# Altium footprint library CONN_PWR.PcbLib: 30 footprints (part 1 of 2)
Each footprint in its own frame and in the unit in brackets; x right, y up, seen from the top. Pads: shape width x height; smd on the part's side, far side on the other; paste and mask are expansions set on the pad; w line width, h text height; cw(c..) or ccw(c..) is an arc to the next point about the centre after c.
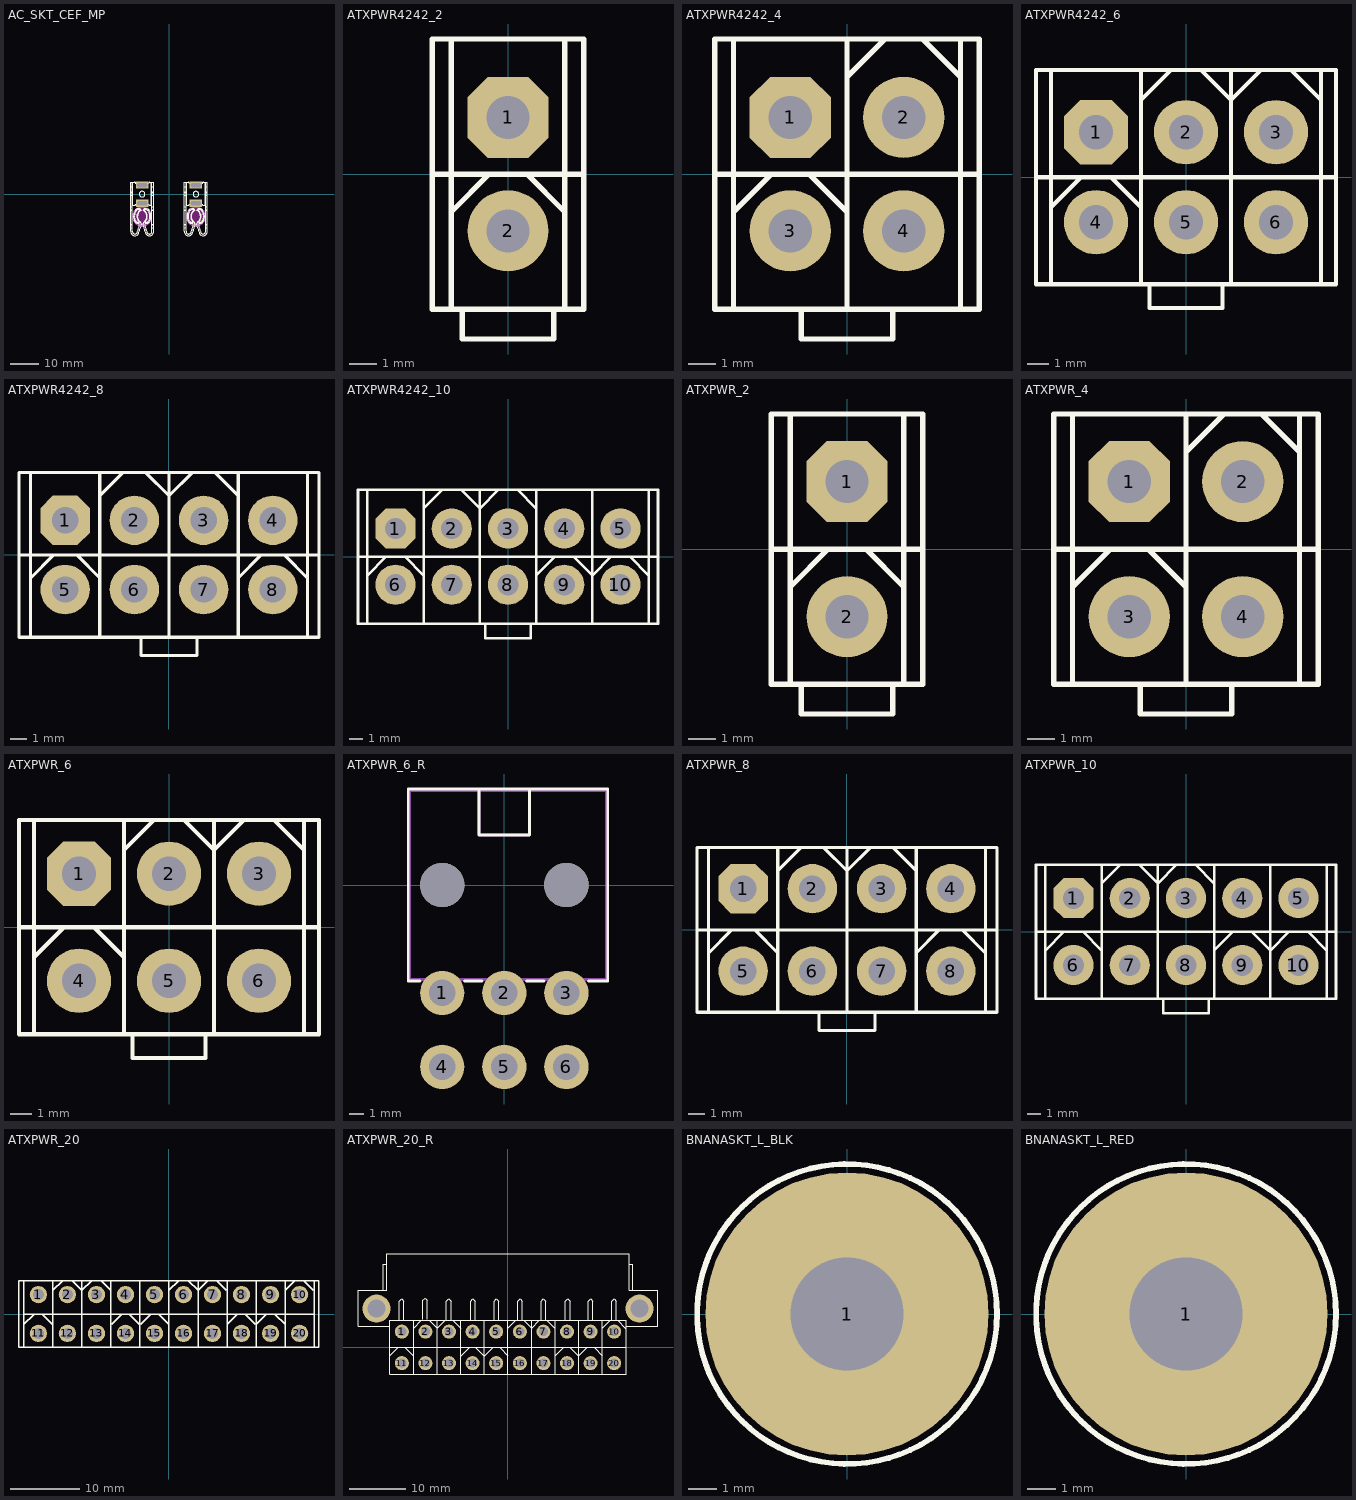
[diagram p0: the footprints below, top view; thin cyan lines are the x and y axes]

## AC_SKT_CEF_MP [mm] "AC power Brass socket METAL PART of Type C, E, F"
height 23.5
pads (4):
  rect 4.5x2.5 hole 1.5 slot 3.5 at 0 deg: A1(-9.5,-3.2) A2(-9.5,3.2) B1(9.5,-3.2) B2(9.5,3.2)
Top Overlay:
  drawing of 494 lines, arcs and shapes, not listed
Keep-Out Layer:
  board cut-out: -12.9,-7.895 -12.88,-8.235 -12.83,-8.595 -12.74,-8.915 -12.6,-9.285 -12.41,-9.645 -12.21,-9.945 -11.99,-10.205 -11.8,-10.385 -11.58,-10.585 -11.33,-10.755 -11.07,-10.915 -10.74,-11.065 -10.38,-11.185 -10.02,-11.255 -9.7,-11.295 -9.29,-11.295 -8.9,-11.255 -8.6,-11.175 -8.23,-11.045 -7.9,-10.915 -7.61,-10.725 -7.29,-10.495 -7.02,-10.235 -6.75,-9.925 -6.53,-9.585 -6.35,-9.205 -6.22,-8.835 -6.16,-8.535 -6.11,-8.225 -6.1,-7.895 -6.1,-7.575 -6.16,-7.205 -6.28,-6.775 -6.41,-6.455 -6.54,-6.215 -6.68,-5.985 -6.82,-5.795 -7.07,-5.505 -7.36,-5.255 -7.74,-4.975 -8.15,-4.775 -8.304,-4.715 -10.72,-4.715 -11.09,-4.875 -11.39,-5.055 -11.71,-5.305 -11.95,-5.525 -12.19,-5.805 -12.39,-6.105 -12.53,-6.335 -12.67,-6.665 -12.79,-7.015 -12.85,-7.325 -12.9,-7.635
  board cut-out: 6.1,-7.895 6.12,-8.235 6.17,-8.595 6.26,-8.915 6.4,-9.285 6.59,-9.645 6.79,-9.945 7.01,-10.205 7.2,-10.385 7.42,-10.585 7.67,-10.755 7.93,-10.915 8.26,-11.065 8.62,-11.185 8.98,-11.255 9.3,-11.295 9.71,-11.295 10.1,-11.255 10.4,-11.175 10.77,-11.045 11.1,-10.915 11.39,-10.725 11.71,-10.495 11.98,-10.235 12.25,-9.925 12.47,-9.585 12.65,-9.205 12.78,-8.835 12.84,-8.535 12.89,-8.225 12.9,-7.895 12.9,-7.575 12.84,-7.205 12.72,-6.775 12.59,-6.455 12.46,-6.215 12.32,-5.985 12.18,-5.795 11.93,-5.505 11.64,-5.255 11.26,-4.975 10.85,-4.775 10.696,-4.715 8.28,-4.715 7.91,-4.875 7.61,-5.055 7.29,-5.305 7.05,-5.525 6.81,-5.805 6.61,-6.105 6.47,-6.335 6.33,-6.665 6.21,-7.015 6.15,-7.325 6.1,-7.635
Mechanical 1:
  lines w0.2: -10.663,-4.68 ccw(c-9.5,-7.875) -8.337,-4.68 -10.663,-4.68 ; 8.337,-4.68 ccw(c9.5,-7.875) 10.663,-4.68 8.337,-4.68
3D body "75.stp": height 7.32, standoff -4.5, extent 5.45,-14.681 13.55,4.215
3D body "75.stp": height 7.32, standoff -4.5, extent -13.55,-14.681 -5.45,4.215

## ATXPWR4242_2 [mm] "Connector; ATX Power; pitch: 4.2mm-Row4.2mm"
pads (2):
  oct 3x3 hole 1.6: 1(0,2.1)
  round 3 hole 1.6: 2(0,-2.1)
Top Overlay:
  lines w0.2: -2.8,0 2.8,0 ; -2.1,-5 -2.1,5 ; -2.1,-1.4 -0.7,0 ; -1.7,-5 -1.7,-6.1 1.7,-6.1 1.7,-5 ; 0.7,0 2.1,-1.4 ; 2.1,-5 2.1,5 ; -2.8,-5 -2.8,5 2.8,5 2.8,-5 -2.8,-5
3D body "0039281023.stp": height 12.8, standoff -3.5, extent -3.1,-6 3.1,5

## ATXPWR4242_4 [mm] "Connector; ATX Power; pitch: 4.2mm-Row4.2mm"
pads (4):
  oct 3x3 hole 1.6: 1(-2.1,2.1)
  round 3 hole 1.6: 2(2.1,2.1) 3(-2.1,-2.1) 4(2.1,-2.1)
Top Overlay:
  lines w0.2: -4.9,0 4.9,0 ; -4.2,-5 -4.2,5 ; -4.2,-1.4 -2.8,0 ; -1.7,-5 -1.7,-6.1 1.7,-6.1 1.7,-5 ; -1.4,0 0,-1.4 ; 0,-5 0,5 ; 0,3.6 1.4,5 ; 2.8,5 4.2,3.6 ; 4.2,-5 4.2,5 ; -4.9,-5 4.9,-5 4.9,5 -4.9,5 -4.9,-5
3D body "c-4-1775099-0-e-3d.stp": height 13, standoff -3, extent -5.097,-6.1 4.75,4.8

## ATXPWR4242_6 [mm] "Connector; ATX Power; pitch: 4.2mm-Row4.2mm"
pads (6):
  oct 3x3 hole 1.6: 1(-4.2,2.1)
  round 3 hole 1.6: 2(0,2.1) 3(4.2,2.1) 4(-4.2,-2.1) 5(0,-2.1) 6(4.2,-2.1)
Top Overlay:
  lines w0.2: -7,0 7,0 ; -6.3,-5 -6.3,5 ; -6.3,-1.4 -4.9,0 ; -3.5,0 -2.1,-1.4 ; -2.1,-5 -2.1,5 ; -2.1,3.6 -0.7,5 ; -1.7,-5 -1.7,-6.1 1.7,-6.1 1.7,-5 ; 0.7,5 2.1,3.6 3.5,5 ; 2.1,-5 2.1,5 ; 4.9,5 6.3,3.6 ; 6.3,-5 6.3,5 ; -7,-5 7,-5 7,5 -7,5 -7,-5
3D body "4-1775099-1.stp": height 13, standoff -3, extent -6.85,-6.1 6.85,4.8

## ATXPWR4242_8 [mm] "Connector; ATX Power; pitch: 4.2mm-Row4.2mm"
pads (8):
  oct 3x3 hole 1.6: 1(-6.3,2.1)
  round 3 hole 1.6: 2(-2.1,2.1) 3(2.1,2.1) 4(6.3,2.1) 5(-6.3,-2.1) 6(-2.1,-2.1) 7(2.1,-2.1) 8(6.3,-2.1)
Top Overlay:
  lines w0.2: -9.1,0 9.1,0 ; -8.4,-5 -8.4,5 ; -8.4,-1.4 -7,0 ; -5.6,0 -4.2,-1.4 ; -4.2,-5 -4.2,5 ; -4.2,3.6 -2.8,5 ; -1.7,-5 -1.7,-6.1 1.7,-6.1 1.7,-5 ; -1.4,5 0,3.6 1.4,5 ; 0,-5 0,5 ; 2.8,5 4.2,3.6 ; 4.2,-5 4.2,5 ; 4.2,-1.4 5.6,0 ; 7,0 8.4,-1.4 ; 8.4,-5 8.4,5 ; -9.1,-5 -9.1,5 9.1,5 9.1,-5 -9.1,-5
3D body "c-4-1775099-2-e-3d.stp": height 13, standoff -3, extent -9.297,-6.1 8.95,4.8

## ATXPWR4242_10 [mm] "Connector; ATX Power; pitch: 4.2mm-Row4.2mm"
pads (10):
  oct 3x3 hole 1.6: 1(-8.4,2.1)
  round 3 hole 1.6: 2(-4.2,2.1) 3(0,2.1) 4(4.2,2.1) 5(8.4,2.1) 6(-8.4,-2.1) 7(-4.2,-2.1) 8(0,-2.1) 9(4.2,-2.1) 10(8.4,-2.1)
Top Overlay:
  lines w0.2: -11.2,0 11.2,0 ; -10.5,-5 -10.5,5 ; -10.5,-1.4 -9.1,0 ; -7.7,0 -6.3,-1.4 ; -6.3,-5 -6.3,5 ; -6.3,3.6 -4.9,5 ; -3.5,5 -2.1,3.6 -0.7,5 ; -2.1,-5 -2.1,5 ; -1.7,-5 -1.7,-6.1 1.7,-6.1 1.7,-5 ; 0.7,5 2.1,3.6 ; 2.1,-5 2.1,5 ; 2.1,-1.4 3.5,0 ; 4.9,0 6.3,-1.4 7.7,0 ; 6.3,-5 6.3,5 ; 9.1,0 10.5,-1.4 ; 10.5,-5 10.5,5 ; -11.2,-5 11.2,-5 11.2,5 -11.2,5 -11.2,-5
3D body "4-1775099-3.stp": height 13, standoff -3, extent -11.047,-6.095 11.053,4.805

## ATXPWR_2 [mm] "Connector; ATX Power; 2 Position, Molex 39281023"
pads (2):
  oct 3x3 hole 1.6: 1(0,2.5)
  round 3 hole 1.6: 2(0,-2.5)
Top Overlay:
  lines w0.2: -2.8,0 2.8,0 ; -2.1,-5 -2.1,5 ; -2.1,-1.4 -0.7,0 ; -1.7,-5 -1.7,-6.1 1.7,-6.1 1.7,-5 ; 0.7,0 2.1,-1.4 ; 2.1,-5 2.1,5 ; -2.8,-5 2.8,-5 2.8,5 -2.8,5 -2.8,-5
3D body "0039281023.stp": height 12.8, standoff -3.5, extent -3.1,-6 3.1,5

## ATXPWR_4 [mm] "Connector; ATX Power; 4 Position, TE 4-1775099-0"
pads (4):
  oct 3x3 hole 1.6: 1(-2.1,2.5)
  round 3 hole 1.6: 2(2.1,2.5) 3(-2.1,-2.5) 4(2.1,-2.5)
Top Overlay:
  lines w0.2: -4.9,0 4.9,0 ; -4.2,-5 -4.2,5 ; -4.2,-1.4 -2.8,0 ; -1.7,-5 -1.7,-6.1 1.7,-6.1 1.7,-5 ; -1.4,0 0,-1.4 ; 0,-5 0,5 ; 0,3.6 1.4,5 ; 2.8,5 4.2,3.6 ; 4.2,-5 4.2,5 ; -4.9,-5 -4.9,5 4.9,5 4.9,-5 -4.9,-5
3D body "c-4-1775099-0-e-3d.stp": height 13, standoff -3, extent -5.097,-6.1 4.75,4.8

## ATXPWR_6 [mm] "Connector; ATX Power; 6 Position, TE 4-1775099-1"
pads (6):
  oct 3x3 hole 1.6: 1(-4.2,2.5)
  round 3 hole 1.6: 2(0,2.5) 3(4.2,2.5) 4(-4.2,-2.5) 5(0,-2.5) 6(4.2,-2.5)
Top Overlay:
  lines w0.2: -7,0 7,0 ; -6.3,-5 -6.3,5 ; -6.3,-1.4 -4.9,0 ; -3.5,0 -2.1,-1.4 ; -2.1,-5 -2.1,5 ; -2.1,3.6 -0.7,5 ; -1.7,-5 -1.7,-6.1 1.7,-6.1 1.7,-5 ; 0.7,5 2.1,3.6 3.5,5 ; 2.1,-5 2.1,5 ; 4.9,5 6.3,3.6 ; 6.3,-5 6.3,5 ; -7,-5 7,-5 7,5 -7,5 -7,-5
3D body "4-1775099-1.stp": height 13, standoff -3, extent -6.85,-6.1 6.85,4.8

## ATXPWR_6_R [mm] "PCI Express POWER CONNECTOR 6PIN 12V Right Angle"
height 9.6
pads (8):
  round 3 hole 1.8 mask+0.1: 1(-4.2,-7.3) 2(0,-7.3) 3(4.2,-7.3) 4(-4.2,-12.3) 5(0,-12.3) 6(4.2,-12.3)
  round 3 hole 3 mask+0.1: ""(-4.2,0) ""(4.2,0)
Top Overlay:
  lines w0.2: -5.7,-6.5 -6.5,-6.5 -6.5,6.5 7,6.5 7,-6.5 5.7,-6.5 ; -2.7,-6.5 -1.5,-6.5 ; -1.7,6.5 -1.7,3.4 1.7,3.4 1.7,6.5 ; 1.5,-6.5 2.7,-6.5
Mechanical 13:
  lines w0.2: -1.7,6.4 -1.7,3.4 1.7,3.4 1.7,6.4 ; -6.4,-6.4 -6.4,6.4 6.9,6.4 6.9,-6.4 -6.4,-6.4
3D body "c-5794173-4-a-3d.stp": height 12.65, standoff -3.95, extent -11.9,-13.3 11.9,6.634

## ATXPWR_8 [mm] "Connector; ATX Power; 10 Position, TE 4-1775099-2"
pads (8):
  oct 3x3 hole 1.6: 1(-6.3,2.5)
  round 3 hole 1.6: 2(-2.1,2.5) 3(2.1,2.5) 4(6.3,2.5) 5(-6.3,-2.5) 6(-2.1,-2.5) 7(2.1,-2.5) 8(6.3,-2.5)
Top Overlay:
  lines w0.2: -9.1,0 9.1,0 ; -8.4,-5 -8.4,5 ; -8.4,-1.4 -7,0 ; -5.6,0 -4.2,-1.4 ; -4.2,-5 -4.2,5 ; -4.2,3.6 -2.8,5 ; -1.7,-5 -1.7,-6.1 1.7,-6.1 1.7,-5 ; -1.4,5 0,3.6 1.4,5 ; 0,-5 0,5 ; 2.8,5 4.2,3.6 ; 4.2,-5 4.2,5 ; 4.2,-1.4 5.6,0 ; 7,0 8.4,-1.4 ; 8.4,-5 8.4,5 ; -9.1,-5 9.1,-5 9.1,5 -9.1,5 -9.1,-5
3D body "c-4-1775099-2-e-3d.stp": height 13, standoff -3, extent -9.297,-6.1 8.95,4.8

## ATXPWR_10 [mm] "Connector; ATX Power; 10 Position, TE 4-1775099-3"
pads (10):
  oct 3x3 hole 1.6: 1(-8.4,2.5)
  round 3 hole 1.6: 2(-4.2,2.5) 3(0,2.5) 4(4.2,2.5) 5(8.4,2.5) 6(-8.4,-2.5) 7(-4.2,-2.5) 8(0,-2.5) 9(4.2,-2.5) 10(8.4,-2.5)
Top Overlay:
  lines w0.2: -11.2,0 11.2,0 ; -10.5,-5 -10.5,5 ; -10.5,-1.4 -9.1,0 ; -7.7,0 -6.3,-1.4 ; -6.3,-5 -6.3,5 ; -6.3,3.6 -4.9,5 ; -3.5,5 -2.1,3.6 -0.7,5 ; -2.1,-5 -2.1,5 ; -1.7,-5 -1.7,-6.1 1.7,-6.1 1.7,-5 ; 0.7,5 2.1,3.6 ; 2.1,-5 2.1,5 ; 2.1,-1.4 3.5,0 ; 4.9,0 6.3,-1.4 7.7,0 ; 6.3,-5 6.3,5 ; 9.1,0 10.5,-1.4 ; 10.5,-5 10.5,5 ; -11.2,-5 11.2,-5 11.2,5 -11.2,5 -11.2,-5
3D body "4-1775099-3.stp": height 13, standoff -3, extent -11.047,-6.095 11.053,4.805

## ATXPWR_20 [mm] "ATX power 20pin ,pitch4.2mm, TE 4-1775099-7"
height 7
pads (20):
  round 2.5 / inner round 2.5 / far side oval 2.5x3.6 hole 1.6: 1(-18.9,2.8) 2(-14.7,2.8) 3(-10.5,2.8) 4(-6.3,2.8) 5(-2.1,2.8) 6(2.1,2.8) 7(6.3,2.8) 8(10.5,2.8) 9(14.7,2.8) 10(18.9,2.8) 11(-18.9,-2.8) 12(-14.7,-2.8) 13(-10.5,-2.8) 14(-6.3,-2.8) 15(-2.1,-2.8) 16(2.1,-2.8) 17(6.3,-2.8) 18(10.5,-2.8) 19(14.7,-2.8) 20(18.9,-2.8)
Top Overlay:
  lines w0.2: -21,-1.5 -19.6,-0.1 ; -21,0 21,0 ; -18.3,-0.1 -16.9,-1.5 ; -16.8,-4.8 -16.8,4.8 ; -16.8,3.4 -15.4,4.8 ; -14,4.8 -12.6,3.4 -11.2,4.8 ; -12.6,-4.8 -12.6,4.8 ; -9.8,4.8 -8.4,3.4 ; -8.4,-4.8 -8.4,4.8 ; -8.3,-1.5 -6.9,-0.1 ; -5.7,-0.1 -4.3,-1.5 ; -4.2,-4.8 -4.2,4.8 ; -4.1,-1.5 -2.7,-0.1 ; -1.4,-0.1 0,-1.5 ; 0,-4.8 0,4.8 ; 0,3.4 1.4,4.8 ; 2.8,4.8 4.2,3.4 5.6,4.8 ; 4.2,-4.8 4.2,4.8 ; 6.9,4.8 8.3,3.4 ; 8.4,-4.8 8.4,4.8 ; 8.4,-1.5 9.8,-0.1 ; 11.1,-0.1 12.5,-1.5 ; 12.6,-4.8 12.6,4.8 ; 12.6,-1.5 14,-0.1 ; 15.4,-0.1 16.8,-1.5 ; 16.8,-4.8 16.8,4.8 ; 16.8,3.4 18.2,4.8 ; 19.5,4.8 20.9,3.4 ; -21,-4.8 21,-4.8 ; -21,-4.8 -21,4.8 ; -21,-4.8 -21.7,-4.8 -21.7,4.8 -21,4.8 ; -21,4.8 21,4.8 ; 21,-4.8 21,4.8 ; 21,-4.8 21.7,-4.8 21.7,4.8 21,4.8
3D body "039281203.stp": height 12.9, standoff -3.4, extent -22,-6.2 22,4.8

## ATXPWR_20_R [mm] "ATX power 20pin ,pitch4.2mm"
height 7
pads (22):
  round 2.5 / inner round 2.5 / far side oval 2.5x3.6 hole 1.6: 1(-18.9,2.8) 2(-14.7,2.8) 3(-10.5,2.8) 4(-6.3,2.8) 5(-2.1,2.8) 6(2.1,2.8) 7(6.3,2.8) 8(10.5,2.8) 9(14.7,2.8) 10(18.9,2.8) 11(-18.9,-2.8) 12(-14.7,-2.8) 13(-10.5,-2.8) 14(-6.3,-2.8) 15(-2.1,-2.8) 16(2.1,-2.8) 17(6.3,-2.8) 18(10.5,-2.8) 19(14.7,-2.8) 20(18.9,-2.8)
  round 5 hole 3.2: ""(-23.4,6.9) ""(23.4,6.9)
Top Overlay:
  lines w0.2: -21.6,10.2 -22.2,10.2 ; -21.6,10.2 -21.6,14.8 ; -21,-1.5 -19.6,-0.1 ; -21,0 21,0 ; -21,3.8 -26.693,3.8 -26.693,10.2 -22.2,10.2 ; -19.369,4.859 -19.369,8.246 -18.946,8.669 -18.523,8.246 -18.523,4.859 ; -18.3,-0.1 -16.9,-1.5 ; -16.8,-4.8 -16.8,4.8 ; -16.8,3.4 -15.4,4.8 ; -15.178,4.986 -15.178,8.373 -14.755,8.796 -14.332,8.373 -14.332,4.986 ; -14,4.8 -12.6,3.4 -11.2,4.8 ; -12.6,-4.8 -12.6,4.8 ; -10.987,4.859 -10.987,8.246 -10.564,8.669 -10.141,8.246 -10.141,4.859 ; -9.8,4.8 -8.4,3.4 ; -8.4,-4.8 -8.4,4.8 ; -8.3,-1.5 -6.9,-0.1 ; -6.669,4.859 -6.669,8.246 -6.246,8.669 -5.823,8.246 -5.823,4.859 ; -5.7,-0.1 -4.3,-1.5 ; -4.2,-4.8 -4.2,4.8 ; -4.1,-1.5 -2.7,-0.1 ; -2.478,4.859 -2.478,8.246 -2.055,8.669 -1.632,8.246 -1.632,4.859 ; -1.4,-0.1 0,-1.5 ; 0,-4.8 0,4.8 ; 0,3.4 1.4,4.8 ; 1.713,4.859 1.713,8.246 2.136,8.669 2.559,8.246 2.559,4.859 ; 2.8,4.8 4.2,3.4 5.6,4.8 ; 4.2,-4.8 4.2,4.8 ; 5.884,4.859 5.884,8.246 6.308,8.669 6.731,8.246 6.731,4.859 ; 6.9,4.8 8.3,3.4 ; 8.4,-4.8 8.4,4.8 ; 8.4,-1.5 9.8,-0.1 ; 10.202,4.859 10.202,8.246 10.626,8.669 11.049,8.246 11.049,4.859 ; 11.1,-0.1 12.5,-1.5 ; 12.6,-4.8 12.6,4.8 ; 12.6,-1.5 14,-0.1 ; 14.266,4.859 14.266,8.246 14.69,8.669 15.113,8.246 15.113,4.859 ; 15.4,-0.1 16.8,-1.5 ; 16.8,-4.8 16.8,4.8 ; 16.8,3.4 18.2,4.8 ; 18.457,4.859 18.457,8.246 18.881,8.669 19.304,8.246 19.304,4.859 ; 19.5,4.8 20.9,3.4 ; 21,3.8 26.693,3.8 26.693,10.2 22.2,10.2 ; 21.6,10.2 22.2,10.2 ; 21.6,10.2 21.6,14.8 ; -22.2,10.2 -22.2,14.8 -21.6,14.8 ; -21.6,14.8 -21.6,16.7 21.6,16.7 21.6,14.8 ; 21.6,14.8 22.2,14.8 22.2,10.2 ; -21,-4.8 -21,4.8 21,4.8 21,-4.8 -21,-4.8
3D body "039291208.stp": height 11.5, standoff -3.4, extent -26.666,-3.284 26.534,16.651

## BNANASKT_L_BLK [mm] "Banana socket long black"
height 20
pads (1):
  round 10 hole 4: 1(0,0)
Top Overlay:
  circle w0.2: c0,0 r5.3
3D body "Banana Connector - 4.00mm - Long - Black.stp": height 21.64, standoff -10.39, extent -5.599,-5.6 5.599,12.014

## BNANASKT_L_RED [mm] "Banana socket long Red"
pads (1):
  round 10 hole 4: 1(0,0)
Top Overlay:
  circle w0.2: c0,0 r5.3
3D body "Banana Connector - 4.00mm - Long - Red.stp": height 21.64, standoff -10.39, extent -5.599,-5.6 5.599,12.014